# EAGLE library part B20B-XASK-1 (library jst-xa)
Wire-to-Board 2.5mm pitch top mount connector Source: http://www.jst-mfg.com/product/pdf/jpn/XA1.pdf http://www.jst-mfg.com/product/detail.php?series=272
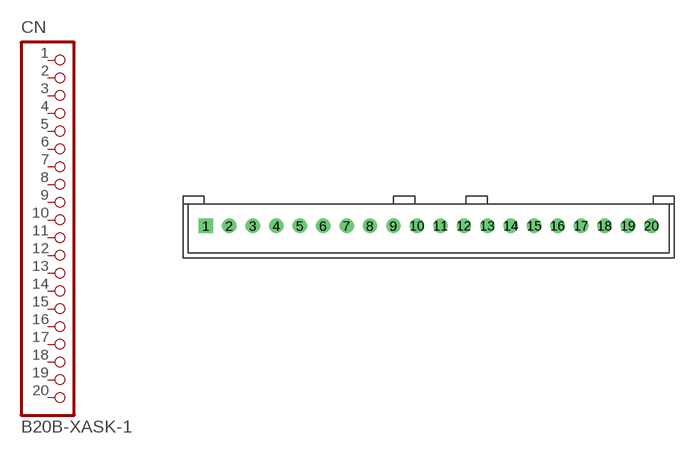
[diagram p11: symbol with the pads of B20B-XASK-1; footprint B20B-XASK-1]

Designator prefix CN

## B20B-XASK-1  [B20B-XASK-1]
1  1  pas
2  2  pas
3  3  pas
4  4  pas
5  5  pas
6  6  pas
7  7  pas
8  8  pas
9  9  pas
10  10  pas
11  11  pas
12  12  pas
13  13  pas
14  14  pas
15  15  pas
16  16  pas
17  17  pas
18  18  pas
19  19  pas
20  20  pas

## Footprint B20B-XASK-1 (pad centres in mm)
drill 1.016 square: 1 -25,0
drill 1.016: 2 -22.5,0; 3 -20,0; 4 -17.5,0; 5 -15,0; 6 -12.5,0; 7 -10,0; 8 -7.5,0; 9 -5,0; 10 -2.5,0; 11 0,0; 12 2.5,0; 13 5,0; 14 7.5,0; 15 10,0; 16 12.5,0; 17 15,0; 18 17.5,0; 19 20,0; 20 22.5,0